# EAGLE library part BU-KGR60 (library 1A-meinLib)
Lumberg Rundsteckverbinder mit Schraubverschluß DIN 45 321 6pol. für PCB, KGR 60
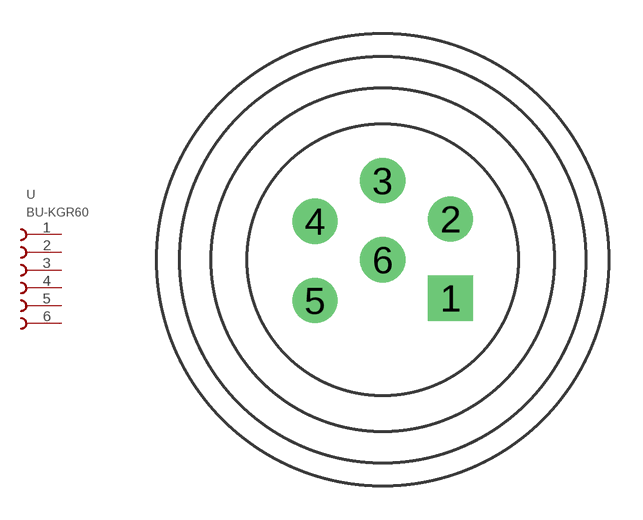
[diagram p152: symbol with the pads of BU-KGR60; footprint BU-KGR60]

Designator prefix -

## BU-KGR60  [BU-KGR60]
1  1  pas
2  2  pas
3  3  pas
4  4  pas
5  5  pas
6  6  pas

## Footprint BU-KGR60 (pad centres in mm)
drill 1 pad 2 square: 1 3,-1.7
drill 1 pad 2 round: 2 3,1.8; 3 0,3.5; 4 -3,1.7; 5 -3,-1.8; 6 0,0